# Altium footprint library Connector_PinHeader_1.00mm.PcbLib: 278 footprints (part 2 of 18)
Each footprint in its own frame and in the unit in brackets; x right, y up, seen from the top. Pads: shape width x height; smd on the part's side, far side on the other; paste and mask are expansions set on the pad; w line width, h text height; cw(c..) or ccw(c..) is an arc to the next point about the centre after c.
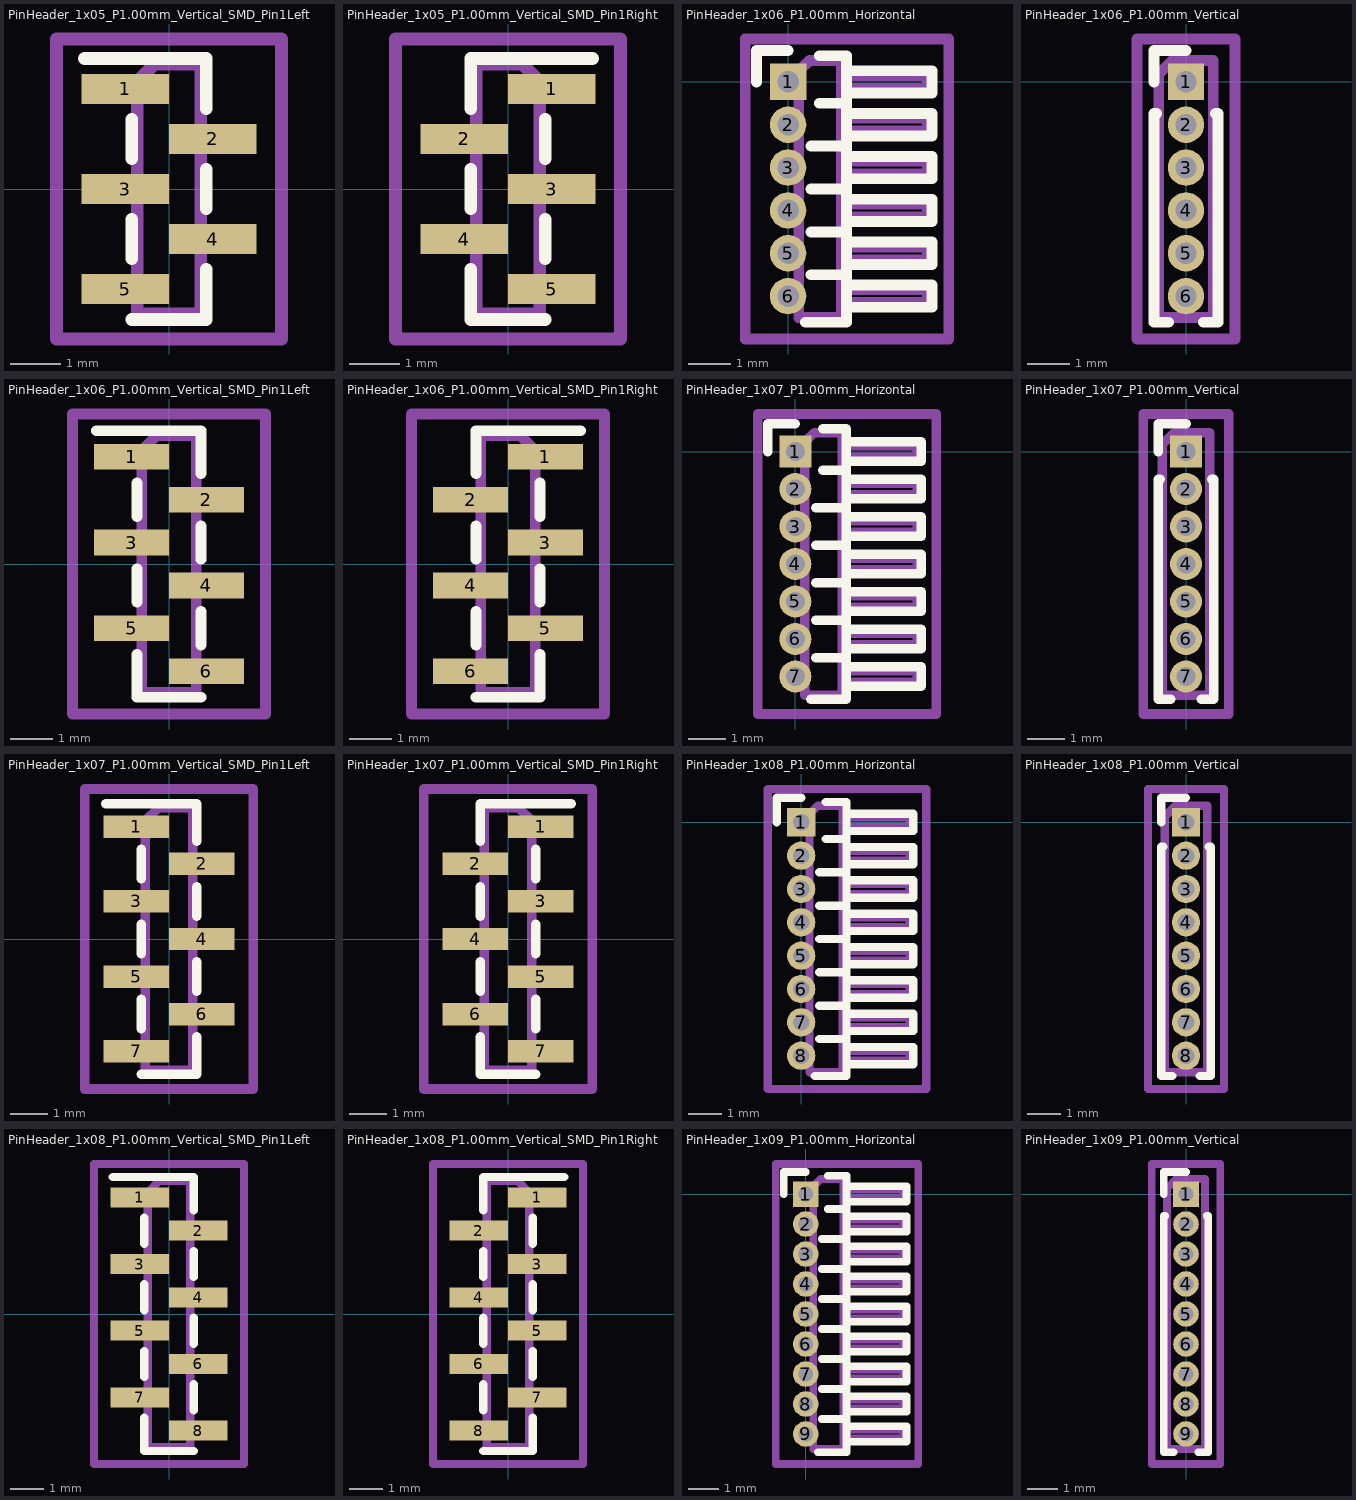
[diagram p1: the footprints below, top view; thin cyan lines are the x and y axes]

## PinHeader_1x05_P1.00mm_Vertical_SMD_Pin1Left [mm]
pads (5):
  rect 1.75x0.6 smd: 1(-0.875,2) 2(0.875,1) 3(-0.875,0) 4(0.875,-1) 5(-0.875,-2)
F.SilkS:
  lines w0.254: -1.69,2.61 -0.745,2.61 0.745,2.61 0.745,1.61 ; -0.745,-2.61 0.745,-2.61 0.745,-1.61 ; -0.745,-1.39 -0.745,-0.61 ; -0.745,0.61 -0.745,1.39 ; 0.745,-0.39 0.745,0.39
Top Assembly:
  lines w0.254: -0.635,-2.15 -1.25,-2.15 -1.25,-1.85 -0.635,-1.85 ; -0.635,-0.15 -1.25,-0.15 -1.25,0.15 -0.635,0.15 ; -0.635,1.85 -1.25,1.85 -1.25,2.15 -0.635,2.15 ; 0.635,-1.15 1.25,-1.15 1.25,-0.85 0.635,-0.85 ; 0.635,0.85 1.25,0.85 1.25,1.15 0.635,1.15 ; -0.635,2.15 -0.635,-2.5 0.635,-2.5 0.635,2.5 -0.285,2.5 -0.635,2.15
  text "'.Designator'" at 0.84,-4.047 h1
Top Courtyard:
  lines w0.254: -2.25,-3 2.25,-3 2.25,3 -2.25,3 -2.25,-3
Top Designator:
  text ".Designator" at -7.618,-0.658 h1.52

## PinHeader_1x05_P1.00mm_Vertical_SMD_Pin1Right [mm]
pads (5):
  rect 1.75x0.6 smd: 1(0.875,2) 2(-0.875,1) 3(0.875,0) 4(-0.875,-1) 5(0.875,-2)
F.SilkS:
  lines w0.254: -0.745,-1.61 -0.745,-2.61 0.745,-2.61 ; -0.745,-0.39 -0.745,0.39 ; -0.745,2.39 -0.745,1.61 -0.745,2.61 0.745,2.61 1.69,2.61 ; 0.745,-1.39 0.745,-0.61 ; 0.745,0.61 0.745,1.39
Top Assembly:
  lines w0.254: -0.635,-1.15 -1.25,-1.15 -1.25,-0.85 -0.635,-0.85 ; -0.635,0.85 -1.25,0.85 -1.25,1.15 -0.635,1.15 ; 0.635,-2.15 1.25,-2.15 1.25,-1.85 0.635,-1.85 ; 0.635,-0.15 1.25,-0.15 1.25,0.15 0.635,0.15 ; 0.635,1.85 1.25,1.85 1.25,2.15 0.635,2.15 ; 0.635,2.15 0.635,-2.5 -0.635,-2.5 -0.635,2.5 0.285,2.5 0.635,2.15
  text "'.Designator'" at 0.84,-4.047 h1
Top Courtyard:
  lines w0.254: -2.25,-3 2.25,-3 2.25,3 -2.25,3 -2.25,-3
Top Designator:
  text ".Designator" at -7.618,-0.658 h1.52

## PinHeader_1x06_P1.00mm_Horizontal [mm]
pads (6):
  rect 0.85x0.85 hole 0.5: 1(0,0)
  round 0.85 hole 0.5: 2(0,-1) 3(0,-2) 4(0,-3) 5(0,-4) 6(0,-5)
F.SilkS:
  lines w0.254: -0.735,0 -0.735,0.735 0,0.735 ; 0.41,-5.61 1.36,-5.61 1.36,0.61 0.735,0.61 ; 0.539,-4.5 1.36,-4.5 ; 0.539,-3.5 1.36,-3.5 ; 0.539,-2.5 1.36,-2.5 ; 0.539,-1.5 1.36,-1.5 ; 0.735,-0.5 1.36,-0.5 ; 1.36,-5.26 3.36,-5.26 3.36,-4.74 1.36,-4.74 ; 1.36,-4.26 3.36,-4.26 3.36,-3.74 1.36,-3.74 ; 1.36,-3.26 3.36,-3.26 3.36,-2.74 1.36,-2.74 ; 1.36,-2.26 3.36,-2.26 3.36,-1.74 1.36,-1.74 ; 1.36,-1.26 3.36,-1.26 3.36,-0.74 1.36,-0.74 ; 1.36,-0.26 3.36,-0.26 3.36,0.26 1.36,0.26 1.36,-0.26
Top Assembly:
  lines w0.254: 0.25,-5.15 -0.15,-5.15 -0.15,-4.85 0.25,-4.85 ; 0.25,-4.15 -0.15,-4.15 -0.15,-3.85 0.25,-3.85 ; 0.25,-3.15 -0.15,-3.15 -0.15,-2.85 0.25,-2.85 ; 0.25,-2.15 -0.15,-2.15 -0.15,-1.85 0.25,-1.85 ; 0.25,-1.15 -0.15,-1.15 -0.15,-0.85 0.25,-0.85 ; 0.25,-0.15 -0.15,-0.15 -0.15,0.15 0.25,0.15 ; 1.25,-5.15 3.25,-5.15 3.25,-4.85 1.25,-4.85 ; 1.25,-4.15 3.25,-4.15 3.25,-3.85 1.25,-3.85 ; 1.25,-3.15 3.25,-3.15 3.25,-2.85 1.25,-2.85 ; 1.25,-2.15 3.25,-2.15 3.25,-1.85 1.25,-1.85 ; 1.25,-1.15 3.25,-1.15 3.25,-0.85 1.25,-0.85 ; 1.25,-0.15 3.25,-0.15 3.25,0.15 1.25,0.15 ; 0.25,-5.5 1.25,-5.5 1.25,0.5 0.5,0.5 0.25,0.25 0.25,-5.5
  text "'.Designator'" at 1.254,-4.928 h0.6
Top Courtyard:
  lines w0.254: -1,-6 3.75,-6 3.75,1 -1,1 -1,-6
Top Designator:
  text ".Designator" at -6.243,-3.008 h1.52

## PinHeader_1x06_P1.00mm_Vertical [mm]
pads (6):
  rect 0.85x0.85 hole 0.5: 1(0,0)
  round 0.85 hole 0.5: 2(0,-1) 3(0,-2) 4(0,-3) 5(0,-4) 6(0,-5)
F.SilkS:
  lines w0.254: -0.745,0 -0.745,0.735 0,0.735 ; -0.686,-0.735 -0.745,-0.735 -0.745,-5.61 -0.41,-5.61 ; 0.41,-5.61 0.745,-5.61 0.745,-0.735 0.686,-0.735
Top Assembly:
  lines w0.254: -0.635,-5.5 0.635,-5.5 0.635,0.5 -0.318,0.5 -0.635,0.182 -0.635,-5.5
  text "'.Designator'" at 0.639,-5.576 h0.76
Top Courtyard:
  lines w0.254: -1.14,-6 1.14,-6 1.14,1 -1.14,1 -1.14,-6
Top Designator:
  text ".Designator" at -7.618,-3.008 h1.52

## PinHeader_1x06_P1.00mm_Vertical_SMD_Pin1Left [mm]
pads (6):
  rect 1.75x0.6 smd: 1(-0.875,2.5) 2(0.875,1.5) 3(-0.875,0.5) 4(0.875,-0.5) 5(-0.875,-1.5) 6(0.875,-2.5)
F.SilkS:
  lines w0.254: -1.69,3.11 -0.745,3.11 0.745,3.11 0.745,2.11 ; -0.745,-2.11 -0.745,-3.11 0.745,-3.11 ; -0.745,-0.89 -0.745,-0.11 ; -0.745,1.11 -0.745,1.89 ; 0.745,-1.89 0.745,-1.11 ; 0.745,0.11 0.745,0.89
Top Assembly:
  lines w0.254: -0.635,-1.65 -1.25,-1.65 -1.25,-1.35 -0.635,-1.35 ; -0.635,0.35 -1.25,0.35 -1.25,0.65 -0.635,0.65 ; -0.635,2.35 -1.25,2.35 -1.25,2.65 -0.635,2.65 ; 0.635,-2.65 1.25,-2.65 1.25,-2.35 0.635,-2.35 ; 0.635,-0.65 1.25,-0.65 1.25,-0.35 0.635,-0.35 ; 0.635,1.35 1.25,1.35 1.25,1.65 0.635,1.65 ; -0.635,2.65 -0.635,-3 0.635,-3 0.635,3 -0.285,3 -0.635,2.65
  text "'.Designator'" at 0.84,-4.047 h1
Top Courtyard:
  lines w0.254: -2.25,-3.5 2.25,-3.5 2.25,3.5 -2.25,3.5 -2.25,-3.5
Top Designator:
  text ".Designator" at -7.618,-0.658 h1.52

## PinHeader_1x06_P1.00mm_Vertical_SMD_Pin1Right [mm]
pads (6):
  rect 1.75x0.6 smd: 1(0.875,2.5) 2(-0.875,1.5) 3(0.875,0.5) 4(-0.875,-0.5) 5(0.875,-1.5) 6(-0.875,-2.5)
F.SilkS:
  lines w0.254: -0.745,-3.11 0.745,-3.11 0.745,-2.11 ; -0.745,-1.89 -0.745,-1.11 ; -0.745,0.11 -0.745,0.89 ; -0.745,2.89 -0.745,2.11 -0.745,3.11 0.745,3.11 1.69,3.11 ; 0.745,-0.89 0.745,-0.11 ; 0.745,1.11 0.745,1.89
Top Assembly:
  lines w0.254: -0.635,-2.65 -1.25,-2.65 -1.25,-2.35 -0.635,-2.35 ; -0.635,-0.65 -1.25,-0.65 -1.25,-0.35 -0.635,-0.35 ; -0.635,1.35 -1.25,1.35 -1.25,1.65 -0.635,1.65 ; 0.635,-1.65 1.25,-1.65 1.25,-1.35 0.635,-1.35 ; 0.635,0.35 1.25,0.35 1.25,0.65 0.635,0.65 ; 0.635,2.35 1.25,2.35 1.25,2.65 0.635,2.65 ; 0.635,2.65 0.635,-3 -0.635,-3 -0.635,3 0.285,3 0.635,2.65
  text "'.Designator'" at 0.84,-4.047 h1
Top Courtyard:
  lines w0.254: -2.25,-3.5 2.25,-3.5 2.25,3.5 -2.25,3.5 -2.25,-3.5
Top Designator:
  text ".Designator" at -7.618,-0.658 h1.52

## PinHeader_1x07_P1.00mm_Horizontal [mm]
pads (7):
  rect 0.85x0.85 hole 0.5: 1(0,0)
  round 0.85 hole 0.5: 2(0,-1) 3(0,-2) 4(0,-3) 5(0,-4) 6(0,-5) 7(0,-6)
F.SilkS:
  lines w0.254: -0.735,0 -0.735,0.735 0,0.735 ; 0.41,-6.61 1.36,-6.61 1.36,0.61 0.735,0.61 ; 0.539,-5.5 1.36,-5.5 ; 0.539,-4.5 1.36,-4.5 ; 0.539,-3.5 1.36,-3.5 ; 0.539,-2.5 1.36,-2.5 ; 0.539,-1.5 1.36,-1.5 ; 0.735,-0.5 1.36,-0.5 ; 1.36,-6.26 3.36,-6.26 3.36,-5.74 1.36,-5.74 ; 1.36,-5.26 3.36,-5.26 3.36,-4.74 1.36,-4.74 ; 1.36,-4.26 3.36,-4.26 3.36,-3.74 1.36,-3.74 ; 1.36,-3.26 3.36,-3.26 3.36,-2.74 1.36,-2.74 ; 1.36,-2.26 3.36,-2.26 3.36,-1.74 1.36,-1.74 ; 1.36,-1.26 3.36,-1.26 3.36,-0.74 1.36,-0.74 ; 1.36,-0.26 3.36,-0.26 3.36,0.26 1.36,0.26 1.36,-0.26
Top Assembly:
  lines w0.254: 0.25,-6.15 -0.15,-6.15 -0.15,-5.85 0.25,-5.85 ; 0.25,-5.15 -0.15,-5.15 -0.15,-4.85 0.25,-4.85 ; 0.25,-4.15 -0.15,-4.15 -0.15,-3.85 0.25,-3.85 ; 0.25,-3.15 -0.15,-3.15 -0.15,-2.85 0.25,-2.85 ; 0.25,-2.15 -0.15,-2.15 -0.15,-1.85 0.25,-1.85 ; 0.25,-1.15 -0.15,-1.15 -0.15,-0.85 0.25,-0.85 ; 0.25,-0.15 -0.15,-0.15 -0.15,0.15 0.25,0.15 ; 1.25,-6.15 3.25,-6.15 3.25,-5.85 1.25,-5.85 ; 1.25,-5.15 3.25,-5.15 3.25,-4.85 1.25,-4.85 ; 1.25,-4.15 3.25,-4.15 3.25,-3.85 1.25,-3.85 ; 1.25,-3.15 3.25,-3.15 3.25,-2.85 1.25,-2.85 ; 1.25,-2.15 3.25,-2.15 3.25,-1.85 1.25,-1.85 ; 1.25,-1.15 3.25,-1.15 3.25,-0.85 1.25,-0.85 ; 1.25,-0.15 3.25,-0.15 3.25,0.15 1.25,0.15 ; 0.25,-6.5 1.25,-6.5 1.25,0.5 0.5,0.5 0.25,0.25 0.25,-6.5
  text "'.Designator'" at 1.254,-5.428 h0.6
Top Courtyard:
  lines w0.254: -1,-7 3.75,-7 3.75,1 -1,1 -1,-7
Top Designator:
  text ".Designator" at -6.243,-3.508 h1.52

## PinHeader_1x07_P1.00mm_Vertical [mm]
pads (7):
  rect 0.85x0.85 hole 0.5: 1(0,0)
  round 0.85 hole 0.5: 2(0,-1) 3(0,-2) 4(0,-3) 5(0,-4) 6(0,-5) 7(0,-6)
F.SilkS:
  lines w0.254: -0.745,0 -0.745,0.735 0,0.735 ; -0.686,-0.735 -0.745,-0.735 -0.745,-6.61 -0.41,-6.61 ; 0.41,-6.61 0.745,-6.61 0.745,-0.735 0.686,-0.735
Top Assembly:
  lines w0.254: -0.635,-6.5 0.635,-6.5 0.635,0.5 -0.318,0.5 -0.635,0.182 -0.635,-6.5
  text "'.Designator'" at 0.639,-6.076 h0.76
Top Courtyard:
  lines w0.254: -1.14,-7 1.14,-7 1.14,1 -1.14,1 -1.14,-7
Top Designator:
  text ".Designator" at -7.618,-3.508 h1.52

## PinHeader_1x07_P1.00mm_Vertical_SMD_Pin1Left [mm]
pads (7):
  rect 1.75x0.6 smd: 1(-0.875,3) 2(0.875,2) 3(-0.875,1) 4(0.875,0) 5(-0.875,-1) 6(0.875,-2) 7(-0.875,-3)
F.SilkS:
  lines w0.254: -1.69,3.61 -0.745,3.61 0.745,3.61 0.745,2.61 ; -0.745,-3.61 0.745,-3.61 0.745,-2.61 ; -0.745,-2.39 -0.745,-1.61 ; -0.745,-0.39 -0.745,0.39 ; -0.745,1.61 -0.745,2.39 ; 0.745,-1.39 0.745,-0.61 ; 0.745,0.61 0.745,1.39
Top Assembly:
  lines w0.254: -0.635,-3.15 -1.25,-3.15 -1.25,-2.85 -0.635,-2.85 ; -0.635,-1.15 -1.25,-1.15 -1.25,-0.85 -0.635,-0.85 ; -0.635,0.85 -1.25,0.85 -1.25,1.15 -0.635,1.15 ; -0.635,2.85 -1.25,2.85 -1.25,3.15 -0.635,3.15 ; 0.635,-2.15 1.25,-2.15 1.25,-1.85 0.635,-1.85 ; 0.635,-0.15 1.25,-0.15 1.25,0.15 0.635,0.15 ; 0.635,1.85 1.25,1.85 1.25,2.15 0.635,2.15 ; -0.635,3.15 -0.635,-3.5 0.635,-3.5 0.635,3.5 -0.285,3.5 -0.635,3.15
  text "'.Designator'" at 0.84,-4.047 h1
Top Courtyard:
  lines w0.254: -2.25,-4 2.25,-4 2.25,4 -2.25,4 -2.25,-4
Top Designator:
  text ".Designator" at -7.618,-0.543 h1.52

## PinHeader_1x07_P1.00mm_Vertical_SMD_Pin1Right [mm]
pads (7):
  rect 1.75x0.6 smd: 1(0.875,3) 2(-0.875,2) 3(0.875,1) 4(-0.875,0) 5(0.875,-1) 6(-0.875,-2) 7(0.875,-3)
F.SilkS:
  lines w0.254: -0.745,-2.61 -0.745,-3.61 0.745,-3.61 ; -0.745,-1.39 -0.745,-0.61 ; -0.745,0.61 -0.745,1.39 ; -0.745,3.39 -0.745,2.61 -0.745,3.61 0.745,3.61 1.69,3.61 ; 0.745,-2.39 0.745,-1.61 ; 0.745,-0.39 0.745,0.39 ; 0.745,1.61 0.745,2.39
Top Assembly:
  lines w0.254: -0.635,-2.15 -1.25,-2.15 -1.25,-1.85 -0.635,-1.85 ; -0.635,-0.15 -1.25,-0.15 -1.25,0.15 -0.635,0.15 ; -0.635,1.85 -1.25,1.85 -1.25,2.15 -0.635,2.15 ; 0.635,-3.15 1.25,-3.15 1.25,-2.85 0.635,-2.85 ; 0.635,-1.15 1.25,-1.15 1.25,-0.85 0.635,-0.85 ; 0.635,0.85 1.25,0.85 1.25,1.15 0.635,1.15 ; 0.635,2.85 1.25,2.85 1.25,3.15 0.635,3.15 ; 0.635,3.15 0.635,-3.5 -0.635,-3.5 -0.635,3.5 0.285,3.5 0.635,3.15
  text "'.Designator'" at 0.84,-4.047 h1
Top Courtyard:
  lines w0.254: -2.25,-4 2.25,-4 2.25,4 -2.25,4 -2.25,-4
Top Designator:
  text ".Designator" at -7.618,-0.543 h1.52

## PinHeader_1x08_P1.00mm_Horizontal [mm]
pads (8):
  rect 0.85x0.85 hole 0.5: 1(0,0)
  round 0.85 hole 0.5: 2(0,-1) 3(0,-2) 4(0,-3) 5(0,-4) 6(0,-5) 7(0,-6) 8(0,-7)
F.SilkS:
  lines w0.254: -0.735,0 -0.735,0.735 0,0.735 ; 0.41,-7.61 1.36,-7.61 1.36,0.61 0.735,0.61 ; 0.539,-6.5 1.36,-6.5 ; 0.539,-5.5 1.36,-5.5 ; 0.539,-4.5 1.36,-4.5 ; 0.539,-3.5 1.36,-3.5 ; 0.539,-2.5 1.36,-2.5 ; 0.539,-1.5 1.36,-1.5 ; 0.735,-0.5 1.36,-0.5 ; 1.36,-7.26 3.36,-7.26 3.36,-6.74 1.36,-6.74 ; 1.36,-6.26 3.36,-6.26 3.36,-5.74 1.36,-5.74 ; 1.36,-5.26 3.36,-5.26 3.36,-4.74 1.36,-4.74 ; 1.36,-4.26 3.36,-4.26 3.36,-3.74 1.36,-3.74 ; 1.36,-3.26 3.36,-3.26 3.36,-2.74 1.36,-2.74 ; 1.36,-2.26 3.36,-2.26 3.36,-1.74 1.36,-1.74 ; 1.36,-1.26 3.36,-1.26 3.36,-0.74 1.36,-0.74 ; 1.36,-0.26 3.36,-0.26 3.36,0.26 1.36,0.26 1.36,-0.26
Top Assembly:
  lines w0.254: 0.25,-7.15 -0.15,-7.15 -0.15,-6.85 0.25,-6.85 ; 0.25,-6.15 -0.15,-6.15 -0.15,-5.85 0.25,-5.85 ; 0.25,-5.15 -0.15,-5.15 -0.15,-4.85 0.25,-4.85 ; 0.25,-4.15 -0.15,-4.15 -0.15,-3.85 0.25,-3.85 ; 0.25,-3.15 -0.15,-3.15 -0.15,-2.85 0.25,-2.85 ; 0.25,-2.15 -0.15,-2.15 -0.15,-1.85 0.25,-1.85 ; 0.25,-1.15 -0.15,-1.15 -0.15,-0.85 0.25,-0.85 ; 0.25,-0.15 -0.15,-0.15 -0.15,0.15 0.25,0.15 ; 1.25,-7.15 3.25,-7.15 3.25,-6.85 1.25,-6.85 ; 1.25,-6.15 3.25,-6.15 3.25,-5.85 1.25,-5.85 ; 1.25,-5.15 3.25,-5.15 3.25,-4.85 1.25,-4.85 ; 1.25,-4.15 3.25,-4.15 3.25,-3.85 1.25,-3.85 ; 1.25,-3.15 3.25,-3.15 3.25,-2.85 1.25,-2.85 ; 1.25,-2.15 3.25,-2.15 3.25,-1.85 1.25,-1.85 ; 1.25,-1.15 3.25,-1.15 3.25,-0.85 1.25,-0.85 ; 1.25,-0.15 3.25,-0.15 3.25,0.15 1.25,0.15 ; 0.25,-7.5 1.25,-7.5 1.25,0.5 0.5,0.5 0.25,0.25 0.25,-7.5
  text "'.Designator'" at 1.254,-5.928 h0.6
Top Courtyard:
  lines w0.254: -1,-8 3.75,-8 3.75,1 -1,1 -1,-8
Top Designator:
  text ".Designator" at -6.243,-4.008 h1.52

## PinHeader_1x08_P1.00mm_Vertical [mm]
pads (8):
  rect 0.85x0.85 hole 0.5: 1(0,0)
  round 0.85 hole 0.5: 2(0,-1) 3(0,-2) 4(0,-3) 5(0,-4) 6(0,-5) 7(0,-6) 8(0,-7)
F.SilkS:
  lines w0.254: -0.745,0 -0.745,0.735 0,0.735 ; -0.686,-0.735 -0.745,-0.735 -0.745,-7.61 -0.41,-7.61 ; 0.41,-7.61 0.745,-7.61 0.745,-0.735 0.686,-0.735
Top Assembly:
  lines w0.254: -0.635,-7.5 0.635,-7.5 0.635,0.5 -0.318,0.5 -0.635,0.182 -0.635,-7.5
  text "'.Designator'" at 0.639,-6.576 h0.76
Top Courtyard:
  lines w0.254: -1.14,-8 1.14,-8 1.14,1 -1.14,1 -1.14,-8
Top Designator:
  text ".Designator" at -7.618,-4.008 h1.52

## PinHeader_1x08_P1.00mm_Vertical_SMD_Pin1Left [mm]
pads (8):
  rect 1.75x0.6 smd: 1(-0.875,3.5) 2(0.875,2.5) 3(-0.875,1.5) 4(0.875,0.5) 5(-0.875,-0.5) 6(0.875,-1.5) 7(-0.875,-2.5) 8(0.875,-3.5)
F.SilkS:
  lines w0.254: -1.69,4.11 -0.745,4.11 0.745,4.11 0.745,3.11 ; -0.745,-3.11 -0.745,-4.11 0.745,-4.11 ; -0.745,-1.89 -0.745,-1.11 ; -0.745,0.11 -0.745,0.89 ; -0.745,2.11 -0.745,2.89 ; 0.745,-2.89 0.745,-2.11 ; 0.745,-0.89 0.745,-0.11 ; 0.745,1.11 0.745,1.89
Top Assembly:
  lines w0.254: -0.635,-2.65 -1.25,-2.65 -1.25,-2.35 -0.635,-2.35 ; -0.635,-0.65 -1.25,-0.65 -1.25,-0.35 -0.635,-0.35 ; -0.635,1.35 -1.25,1.35 -1.25,1.65 -0.635,1.65 ; -0.635,3.35 -1.25,3.35 -1.25,3.65 -0.635,3.65 ; 0.635,-3.65 1.25,-3.65 1.25,-3.35 0.635,-3.35 ; 0.635,-1.65 1.25,-1.65 1.25,-1.35 0.635,-1.35 ; 0.635,0.35 1.25,0.35 1.25,0.65 0.635,0.65 ; 0.635,2.35 1.25,2.35 1.25,2.65 0.635,2.65 ; -0.635,3.65 -0.635,-4 0.635,-4 0.635,4 -0.285,4 -0.635,3.65
  text "'.Designator'" at 0.84,-4.047 h1
Top Courtyard:
  lines w0.254: -2.25,-4.5 2.25,-4.5 2.25,4.5 -2.25,4.5 -2.25,-4.5
Top Designator:
  text ".Designator" at -7.618,-0.508 h1.52

## PinHeader_1x08_P1.00mm_Vertical_SMD_Pin1Right [mm]
pads (8):
  rect 1.75x0.6 smd: 1(0.875,3.5) 2(-0.875,2.5) 3(0.875,1.5) 4(-0.875,0.5) 5(0.875,-0.5) 6(-0.875,-1.5) 7(0.875,-2.5) 8(-0.875,-3.5)
F.SilkS:
  lines w0.254: -0.745,-4.11 0.745,-4.11 0.745,-3.11 ; -0.745,-2.89 -0.745,-2.11 ; -0.745,-0.89 -0.745,-0.11 ; -0.745,1.11 -0.745,1.89 ; -0.745,3.89 -0.745,3.11 -0.745,4.11 0.745,4.11 1.69,4.11 ; 0.745,-1.89 0.745,-1.11 ; 0.745,0.11 0.745,0.89 ; 0.745,2.11 0.745,2.89
Top Assembly:
  lines w0.254: -0.635,-3.65 -1.25,-3.65 -1.25,-3.35 -0.635,-3.35 ; -0.635,-1.65 -1.25,-1.65 -1.25,-1.35 -0.635,-1.35 ; -0.635,0.35 -1.25,0.35 -1.25,0.65 -0.635,0.65 ; -0.635,2.35 -1.25,2.35 -1.25,2.65 -0.635,2.65 ; 0.635,-2.65 1.25,-2.65 1.25,-2.35 0.635,-2.35 ; 0.635,-0.65 1.25,-0.65 1.25,-0.35 0.635,-0.35 ; 0.635,1.35 1.25,1.35 1.25,1.65 0.635,1.65 ; 0.635,3.35 1.25,3.35 1.25,3.65 0.635,3.65 ; 0.635,3.65 0.635,-4 -0.635,-4 -0.635,4 0.285,4 0.635,3.65
  text "'.Designator'" at 0.84,-4.047 h1
Top Courtyard:
  lines w0.254: -2.25,-4.5 2.25,-4.5 2.25,4.5 -2.25,4.5 -2.25,-4.5
Top Designator:
  text ".Designator" at -7.618,-0.508 h1.52

## PinHeader_1x09_P1.00mm_Horizontal [mm]
pads (9):
  rect 0.85x0.85 hole 0.5: 1(0,0)
  round 0.85 hole 0.5: 2(0,-1) 3(0,-2) 4(0,-3) 5(0,-4) 6(0,-5) 7(0,-6) 8(0,-7) 9(0,-8)
F.SilkS:
  lines w0.254: -0.735,0 -0.735,0.735 0,0.735 ; 0.41,-8.61 1.36,-8.61 1.36,0.61 0.735,0.61 ; 0.539,-7.5 1.36,-7.5 ; 0.539,-6.5 1.36,-6.5 ; 0.539,-5.5 1.36,-5.5 ; 0.539,-4.5 1.36,-4.5 ; 0.539,-3.5 1.36,-3.5 ; 0.539,-2.5 1.36,-2.5 ; 0.539,-1.5 1.36,-1.5 ; 0.735,-0.5 1.36,-0.5 ; 1.36,-8.26 3.36,-8.26 3.36,-7.74 1.36,-7.74 ; 1.36,-7.26 3.36,-7.26 3.36,-6.74 1.36,-6.74 ; 1.36,-6.26 3.36,-6.26 3.36,-5.74 1.36,-5.74 ; 1.36,-5.26 3.36,-5.26 3.36,-4.74 1.36,-4.74 ; 1.36,-4.26 3.36,-4.26 3.36,-3.74 1.36,-3.74 ; 1.36,-3.26 3.36,-3.26 3.36,-2.74 1.36,-2.74 ; 1.36,-2.26 3.36,-2.26 3.36,-1.74 1.36,-1.74 ; 1.36,-1.26 3.36,-1.26 3.36,-0.74 1.36,-0.74 ; 1.36,-0.26 3.36,-0.26 3.36,0.26 1.36,0.26 1.36,-0.26
Top Assembly:
  lines w0.254: 0.25,-8.15 -0.15,-8.15 -0.15,-7.85 0.25,-7.85 ; 0.25,-7.15 -0.15,-7.15 -0.15,-6.85 0.25,-6.85 ; 0.25,-6.15 -0.15,-6.15 -0.15,-5.85 0.25,-5.85 ; 0.25,-5.15 -0.15,-5.15 -0.15,-4.85 0.25,-4.85 ; 0.25,-4.15 -0.15,-4.15 -0.15,-3.85 0.25,-3.85 ; 0.25,-3.15 -0.15,-3.15 -0.15,-2.85 0.25,-2.85 ; 0.25,-2.15 -0.15,-2.15 -0.15,-1.85 0.25,-1.85 ; 0.25,-1.15 -0.15,-1.15 -0.15,-0.85 0.25,-0.85 ; 0.25,-0.15 -0.15,-0.15 -0.15,0.15 0.25,0.15 ; 1.25,-8.15 3.25,-8.15 3.25,-7.85 1.25,-7.85 ; 1.25,-7.15 3.25,-7.15 3.25,-6.85 1.25,-6.85 ; 1.25,-6.15 3.25,-6.15 3.25,-5.85 1.25,-5.85 ; 1.25,-5.15 3.25,-5.15 3.25,-4.85 1.25,-4.85 ; 1.25,-4.15 3.25,-4.15 3.25,-3.85 1.25,-3.85 ; 1.25,-3.15 3.25,-3.15 3.25,-2.85 1.25,-2.85 ; 1.25,-2.15 3.25,-2.15 3.25,-1.85 1.25,-1.85 ; 1.25,-1.15 3.25,-1.15 3.25,-0.85 1.25,-0.85 ; 1.25,-0.15 3.25,-0.15 3.25,0.15 1.25,0.15 ; 0.25,-8.5 1.25,-8.5 1.25,0.5 0.5,0.5 0.25,0.25 0.25,-8.5
  text "'.Designator'" at 1.254,-6.428 h0.6
Top Courtyard:
  lines w0.254: -1,-9 3.75,-9 3.75,1 -1,1 -1,-9
Top Designator:
  text ".Designator" at -6.243,-4.508 h1.52

## PinHeader_1x09_P1.00mm_Vertical [mm]
pads (9):
  rect 0.85x0.85 hole 0.5: 1(0,0)
  round 0.85 hole 0.5: 2(0,-1) 3(0,-2) 4(0,-3) 5(0,-4) 6(0,-5) 7(0,-6) 8(0,-7) 9(0,-8)
F.SilkS:
  lines w0.254: -0.745,0 -0.745,0.735 0,0.735 ; -0.686,-0.735 -0.745,-0.735 -0.745,-8.61 -0.41,-8.61 ; 0.41,-8.61 0.745,-8.61 0.745,-0.735 0.686,-0.735
Top Assembly:
  lines w0.254: -0.635,-8.5 0.635,-8.5 0.635,0.5 -0.318,0.5 -0.635,0.182 -0.635,-8.5
  text "'.Designator'" at 0.639,-7.076 h0.76
Top Courtyard:
  lines w0.254: -1.14,-9 1.14,-9 1.14,1 -1.14,1 -1.14,-9
Top Designator:
  text ".Designator" at -7.618,-4.508 h1.52